# Altium schematic symbol library MCP2515-I_P.SchLib: 1 symbol
Pins are listed as number, name and electrical type; pins without a type are passive.

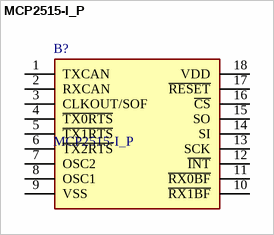
[diagram p0: symbol MCP2515-I_P]

## MCP2515-I_P
designator B?
Stand-Alone CAN Controller; Manufacturer_Name: Microchip; Manufacturer_Part_Number: MCP2515-I/P; Allied_Number: 70045398; Geometry.Height: 5.334mm; RS Part Number: 6283532; RS Price/Stock: http://uk.rs-online.com/web/p/products/6283532; Datasheet Link: http://uk.rs-online.com/web/p/products/6283532
footprint DIP794W56P254L2286H533Q18N
pins: 1 TXCAN, 2 RXCAN, 3 CLKOUT/SOF, 4 ~{TX0RTS}, 5 ~{TX1RTS}, 6 ~{TX2RTS}, 7 OSC2, 8 OSC1, 9 VSS, 10 ~{RX1BF}, 11 ~{RX0BF}, 12 ~{INT}, 13 SCK, 14 SI, 15 SO, 16 ~{CS}, 17 ~{RESET}, 18 VDD